# Altium schematic symbol library C0805C476M9PAC7800.SchLib: 1 symbol
Pins are listed as number, name and electrical type; pins without a type are passive.

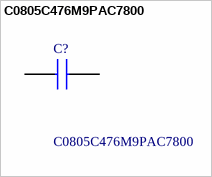
[diagram p0: symbol C0805C476M9PAC7800]

## C0805C476M9PAC7800
designator C?
Multilayer Ceramic Capacitors MLCC - SMD/SMT 6.3volts 47uF 20% X5R; Manufacturer_Name: KEMET; Geometry.Height: 1.45mm; Mouser Part Number: 80-C0805C476M9P7800; Mouser Price/Stock: https://www.mouser.co.uk/ProductDetail/KEMET/C0805C476M9PAC7800?qs=xL%2FyUNPmvLY2BGnZa3AdBg%3D%3D; Manufacturer_Part_Number: C0805C476M9PAC7800; Datasheet Link: https://connect.kemet.com:7667/gateway/IntelliData-ComponentDocumentation/1.0/download/specsheet/C0805C476M9PACTU
footprint CAPC2012X145N
pins: 1, 2